# Altium footprint library Temperature_Sensors.PcbLib: 2 footprints
Each footprint in its own frame and in the unit in brackets; x right, y up, seen from the top. Pads: shape width x height; smd on the part's side, far side on the other; paste and mask are expansions set on the pad; w line width, h text height; cw(c..) or ccw(c..) is an arc to the next point about the centre after c.
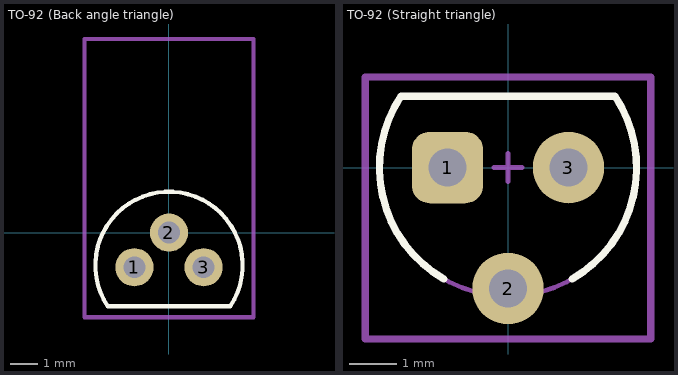
[diagram p0: the footprints below, top view; thin cyan lines are the x and y axes]

## TO-92 (Back angle triangle) [mm]
pads (3):
  round 1.4 hole 0.8: 1(-1.27,-1.27) 2(0,0) 3(1.27,-1.27)
Top Overlay:
  lines w0.153: -2.246,-2.7 2.246,-2.7 ; -2.245,-2.7 cw(c0,-1.2) 2.246,-2.698
Top Assembly:
  lines w0.1: -2.246,-2.7 2.246,-2.7 ; -2.245,-2.7 cw(c0,-1.2) 2.246,-2.698
  text ".Designator" at -3.999,-1.467 h0.8
Top Courtyard (Mech6):
  lines w0.1: -0.3,0 0.3,0 ; 0,-0.3 0,0.3
  lines w0.153: -3.1,-3.1 -3.1,7.1 3.1,7.1 3.1,-3.1 -3.1,-3.1
3D body "TO-92 (TO-226AA).STEP": height 3.83, standoff -3.45, extent -2.406,-1.595 2.409,6.731

## TO-92 (Straight triangle) [mm]
pads (3):
  rrect50% 1.5x1.5 hole 0.8: 1(-1.27,0)
  round 1.5 hole 0.8: 2(0,-2.54) 3(1.27,0)
Top Overlay:
  lines w0.153: -2.246,1.498 ccw(c0,0) -1.35,-2.338 ; -2.246,1.5 2.246,1.5 ; 1.35,-2.338 ccw(c0,0) 2.246,1.498
Top Assembly:
  lines w0.1: -2.246,1.498 ccw(c0,0) 2.245,1.5 ; -2.246,1.5 2.246,1.5
  text ".Designator" at -3.999,-0.267 h0.8
Top Courtyard (Mech6):
  lines w0.1: -0.3,0 0.3,0 ; 0,-0.3 0,0.3
  lines w0.153: -3,-3.6 3,-3.6 3,1.9 -3,1.9 -3,-3.6
3D body "213.STEP": height 10.33, standoff -5, extent -2.66,-2.79 2.66,1.53